# EAGLE library part ATZB-24-A2 (library Zoli2_2015-01-28)
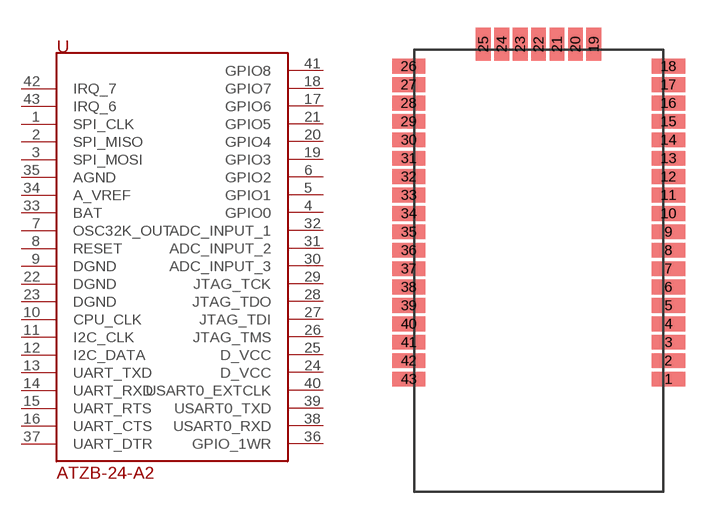
[diagram p63: symbol with the pads of ATZB-24-A2; footprint ATZB-24-A2]

Designator prefix -

## ATZB-24-A2  [ATZB-24-A2]
1  SPI_CLK  out
2  SPI_MISO
3  SPI_MOSI
4  GPIO0
5  GPIO1
6  GPIO2
7  OSC32K_OUT  out
8  RESET  in
9  DGND  pwr
10  CPU_CLK  out
11  I2C_CLK  out
12  I2C_DATA
13  UART_TXD  in
14  UART_RXD  out
15  UART_RTS  in
16  UART_CTS  out
17  GPIO6
18  GPIO7
19  GPIO3
20  GPIO4
21  GPIO5
22  DGND  pwr
23  DGND  pwr
24  D_VCC  pwr
25  D_VCC  pwr
26  JTAG_TMS  in
27  JTAG_TDI  in
28  JTAG_TDO  out
29  JTAG_TCK  in
30  ADC_INPUT_3  in
31  ADC_INPUT_2  in
32  ADC_INPUT_1  in
33  BAT  in
34  A_VREF
35  AGND  pwr
36  GPIO_1WR
37  UART_DTR  in
38  USART0_RXD  in
39  USART0_TXD  out
40  USART0_EXTCLK
41  GPIO8
42  IRQ_7  in
43  IRQ_6  in

## Footprint ATZB-24-A2 (pad centres in mm)
smd 1.8 x 0.8: 1 13.8,6.13; 2 13.8,7.13; 3 13.8,8.13; 4 13.8,9.13; 5 13.8,10.13; 6 13.8,11.13; 7 13.8,12.13; 8 13.8,13.13; 9 13.8,14.13; 10 13.8,15.13; 11 13.8,16.13; 12 13.8,17.13; 13 13.8,18.13; 14 13.8,19.13; 15 13.8,20.13; 16 13.8,21.13; 17 13.8,22.13; 18 13.8,23.13; 26 -0.3,23.13; 27 -0.3,22.13; 28 -0.3,21.13; 29 -0.3,20.13; 30 -0.3,19.13; 31 -0.3,18.13; 32 -0.3,17.13; 33 -0.3,16.13; 34 -0.3,15.13; 35 -0.3,14.13; 36 -0.3,13.13; 37 -0.3,12.13; 38 -0.3,11.13; 39 -0.3,10.13; 40 -0.3,9.13; 41 -0.3,8.13; 42 -0.3,7.13; 43 -0.3,6.13
smd 0.8 x 1.8: 19 9.75,24.33; 20 8.75,24.33; 21 7.75,24.33; 22 6.75,24.33; 23 5.75,24.33; 24 4.75,24.33; 25 3.75,24.33